# Altium schematic symbol library Connector - 4P.SchLib: 1 symbol
Pins are listed as number, name and electrical type; pins without a type are passive.

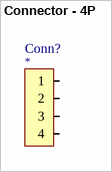
[diagram p0: symbol Connector - 4P]

## Connector - 4P
designator Conn?
Conn, JST, 4P, TH, XA, Side Entry; Component Category: Connector; ComponentLink1Description: Datasheet; ComponentLink1URL: *; ComponentLink2Description: Supplier Link; ComponentLink2URL: *; Supplier: *; Supplier Part Number: *; Manufacturer: JST; Operating Temperature, Min: -℃; Operating Temperature, Max: +℃; Quantity, Min: *; Quantity, Max: *; Price, Min: *; Supplier Currency: *; Price, Max: *; Supplier Link: *; Component Type: PCB; Package: *; Manufacturer Part Number: *
footprint Connector, S04B-XASK-1
pins: 1, 2, 3, 4